# Altium footprint library LIB_PCB_Main.PcbLib: 32 footprints (part 1 of 2)
Each footprint in its own frame and in the unit in brackets; x right, y up, seen from the top. Pads: shape width x height; smd on the part's side, far side on the other; paste and mask are expansions set on the pad; w line width, h text height; cw(c..) or ccw(c..) is an arc to the next point about the centre after c.
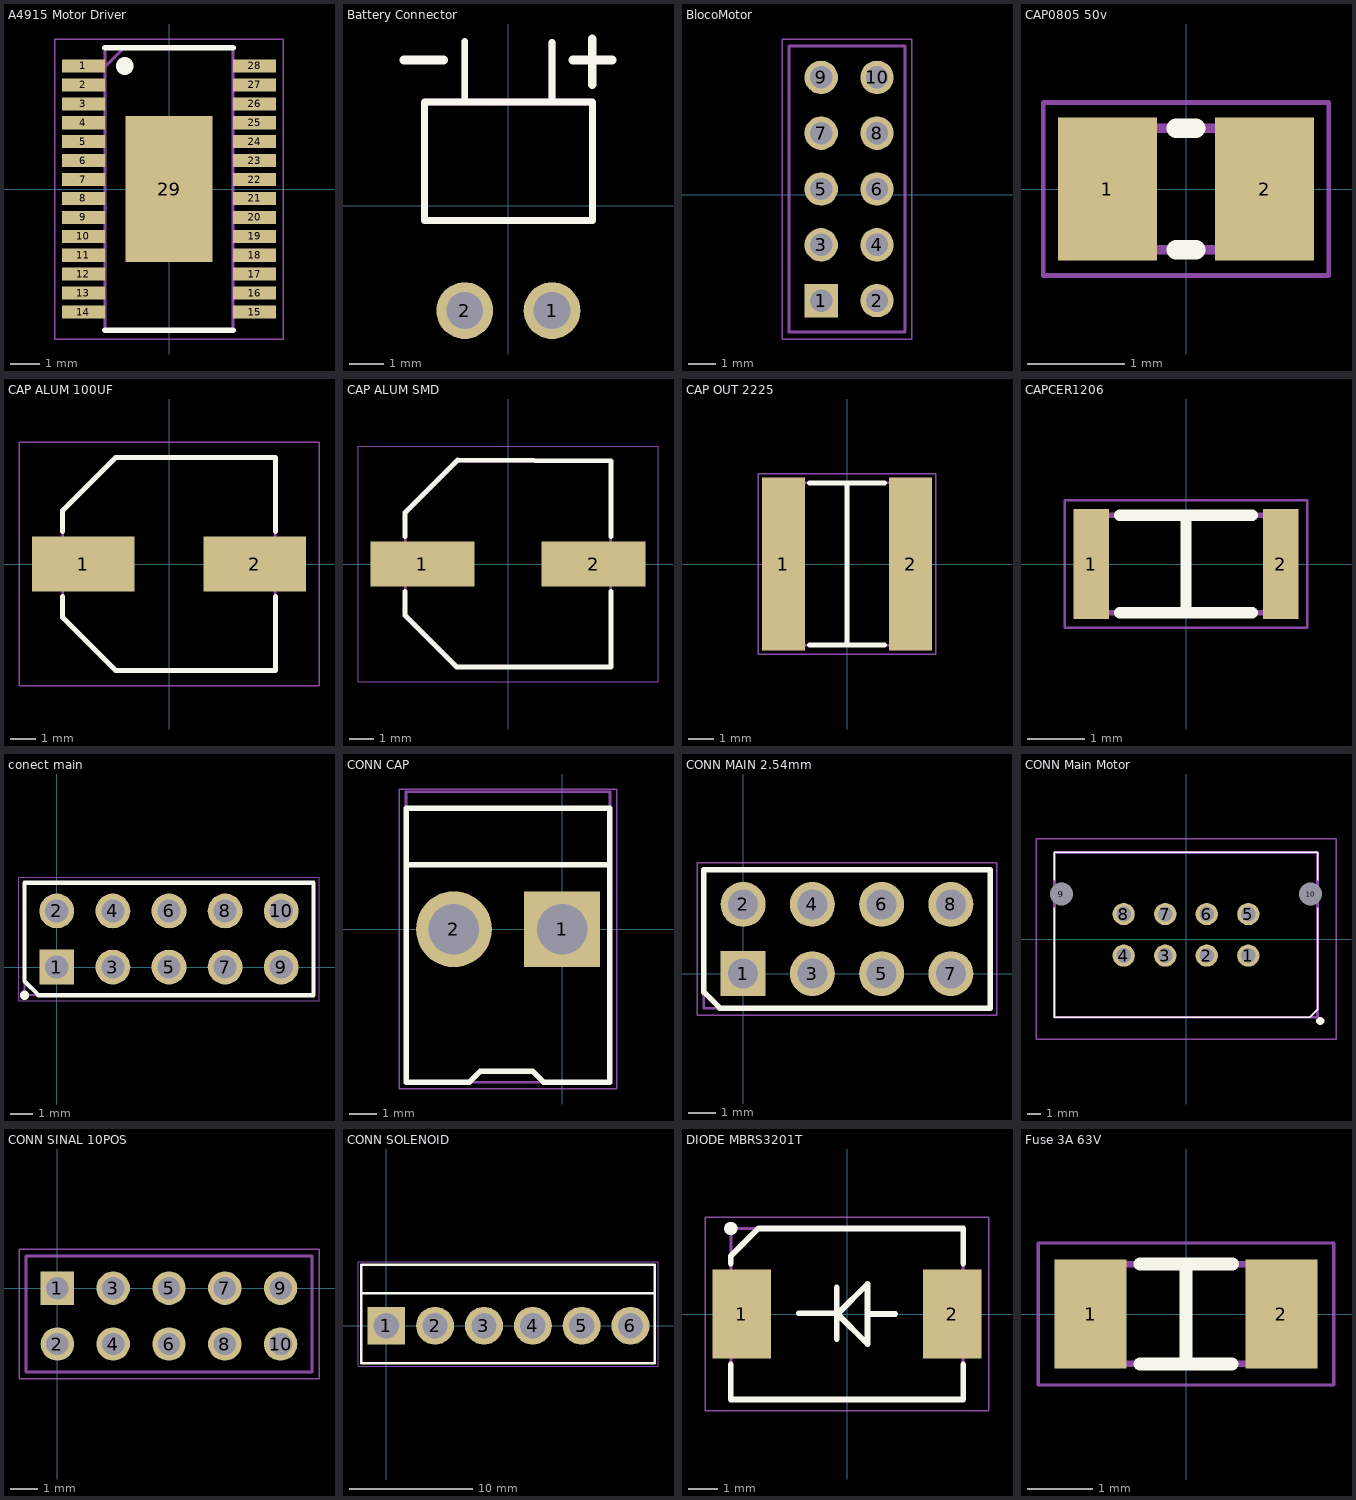
[diagram p0: the footprints below, top view; thin cyan lines are the x and y axes]

## A4915 Motor Driver [mm] "28-Pin TSSOP  with Exposed Thermal Pad"
pads (29):
  rect 1.475x0.45 smd: 1(-2.938,4.225) 2(-2.938,3.575) 3(-2.938,2.925) 4(-2.938,2.275) 5(-2.938,1.625) 6(-2.938,0.975) 7(-2.938,0.325) 8(-2.938,-0.325) 9(-2.938,-0.975) 10(-2.938,-1.625) 11(-2.938,-2.275) 12(-2.938,-2.925) 13(-2.938,-3.575) 14(-2.938,-4.225) 15(2.938,-4.225) 16(2.938,-3.575) 17(2.938,-2.925) 18(2.938,-2.275) 19(2.938,-1.625) 20(2.938,-0.975) 21(2.938,-0.325) 22(2.938,0.325) 23(2.938,0.975) 24(2.938,1.625) 25(2.938,2.275) 26(2.938,2.925) 27(2.938,3.575) 28(2.938,4.225)
  rect 3x5 smd: 29(0,0)
Top Overlay:
  lines w0.2: -2.2,-4.85 2.2,-4.85 ; -2.2,4.85 2.2,4.85
  lines w0.6: -1.524,4.216 -1.524,4.225
Mechanical 13:
  lines w0.1: -2.2,4.2 -1.55,4.85 ; -2.2,-4.85 2.2,-4.85 2.2,4.85 -2.2,4.85 -2.2,-4.85
Mechanical 15:
  lines w0.05: -3.925,-5.15 3.925,-5.15 3.925,5.15 -3.925,5.15 -3.925,-5.15
3D body "A3941KLPTR.stp": height 1.2, standoff 0, extent -3.2,-4.85 3.2,4.85

## Battery Connector [mm] "22-05-3021"
pads (2):
  round 1.65 hole 1.07: 1(1.27,-3.05) 2(-1.27,-3.05)
Top Overlay:
  lines w0.2: -1.27,3.065 -1.27,4.775 ; 1.27,3.048 1.27,4.758 ; -2.445,-0.432 -2.445,3.023 2.445,3.023 2.445,-0.432 -2.445,-0.432
  lines w0.254: -3.048,4.242 -1.88,4.242 ; 1.88,4.242 3.023,4.242 ; 2.438,3.531 2.438,4.851
Mechanical 13:
  lines w0.2: -1.27,3.065 -1.27,4.775 ; 1.27,3.048 1.27,4.758 ; -2.445,-0.432 2.445,-0.432 2.445,3.023 -2.445,3.023 -2.445,-0.432
3D body "22-05-3021.stp": height 6.4, standoff -3.53, extent -2.464,-3.429 2.464,9.5

## BlocoMotor [mm]
pads (10):
  rect 1.2x1.2 hole 0.8: 1(-20.575,-3.8)
  round 1.2 hole 0.8: 2(-18.575,-3.8) 3(-20.575,-1.8) 4(-18.575,-1.8) 5(-20.575,0.2) 6(-18.575,0.2) 7(-20.575,2.2) 8(-18.575,2.2) 9(-20.575,4.2) 10(-18.575,4.2)
Mechanical 13:
  lines w0.1: -21.725,-4.925 -21.725,3.325 -21.725,5.325 -17.575,5.325 -17.575,3.325 -17.575,-4.925 -21.725,-4.925
Mechanical 15:
  lines w0.05: -21.975,-5.175 -21.975,3.575 -21.975,5.575 -17.325,5.575 -17.325,3.575 -17.325,-5.175 -21.975,-5.175
3D body "BlocoMotor.step": height 11.75, standoff 8.94, extent -25.3,-15.175 34.2,12.825

## CAP0805 50v [mm] "CAPC2012X94N"
pads (2):
  rect 1.02x1.47 smd: 1(-0.81,0) 2(0.81,0)
Top Overlay:
  lines w0.2: -0.102,0.625 0.102,0.625 0,0.625 ; -0.1,-0.625 0,-0.625 ; 0,-0.625 0.102,-0.625 0,-0.625
Mechanical 13:
  lines w0.1: -1.005,-0.625 1.005,-0.625 1.005,0.625 -1.005,0.625 -1.005,-0.625
Mechanical 15:
  lines w0.05: -1.47,-0.89 1.47,-0.89 1.47,0.89 -1.47,0.89 -1.47,-0.89
3D body "08055A101JAT2A.stp": height 0.94, standoff 0, extent -1.005,-0.625 1.005,0.625

## CAP ALUM 100UF [mm] "CAP ALUM 100UF 20% 50V SMD"
pads (2):
  rect 4x2.15 smd: 1(-3.35,0) 2(3.35,0)
Top Overlay:
  lines w0.2: -4.15,-1.27 -4.15,-2.075 -2.075,-4.15 4.15,-4.15 4.15,-1.27 ; -4.15,1.27 -4.15,2.075 -2.075,4.15 4.15,4.15 4.15,1.27
Mechanical 13:
  lines w0.1: -4.15,-2.075 -2.075,-4.15 4.15,-4.15 4.15,4.15 -2.075,4.15 -4.15,2.075 -4.15,-2.075
Mechanical 15:
  lines w0.05: -5.85,-4.75 -5.85,4.75 5.85,4.75 5.85,-4.75 -5.85,-4.75
3D body "UCD1H101MNL1GS.stp": height 10.5, standoff 0, extent -4.65,-4.25 4.65,4.25

## CAP ALUM SMD [mm] "CAPAE830X650N"
pads (2):
  rect 4.2x1.8 smd: 1(-3.45,0) 2(3.45,0)
Top Overlay:
  lines w0.2: -4.15,-1.118 -4.15,-2.075 -2.075,-4.15 4.15,-4.15 4.15,-1.118 ; -4.15,1.118 -4.15,2.075 -2.034,4.191 -2.032,4.191 4.15,4.15 4.15,1.118
Mechanical 13:
  lines w0.1: -4.15,-2.075 -4.15,2.075 -2.075,4.15 4.15,4.15 4.15,-4.15 -2.075,-4.15 -4.15,-2.075
Mechanical 15:
  lines w0.05: -6.05,-4.75 6.05,-4.75 6.05,4.75 -6.05,4.75 -6.05,-4.75
3D body "EEE-FK1E101P.stp": height 6.5, standoff 0, extent -4.75,-4.25 4.75,4.25

## CAP OUT 2225 [mm] "CAP CER 200V 2225"
pads (2):
  rect 1.66x6.71 smd: 1(-2.47,0) 2(2.47,0)
Top Overlay:
  lines w0.2: -1.448,-3.15 -0.496,-3.15 0.496,-3.15 1.448,-3.15 ; -1.448,3.15 1.448,3.15 ; 0,-3.05 0,3.05
Mechanical 13:
  lines w0.1: -2.85,-3.15 -2.85,3.15 2.85,3.15 2.85,-3.15 -2.85,-3.15
Mechanical 15:
  lines w0.05: -3.45,-3.51 -3.45,3.51 3.45,3.51 3.45,-3.51 -3.45,-3.51
3D body "2225HC103KAZ1A.stp": height 3.4, standoff 0, extent -2.85,-3.15 2.85,3.15

## CAPCER1206 [mm] "CAPC3317X75N"
pads (2):
  rect 0.62x1.92 smd: 1(-1.65,0) 2(1.65,0)
Top Overlay:
  lines w0.2: -1.15,-0.85 0.025,-0.85 ; -1.15,0.85 0,0.85 1.15,0.85 ; 0,0.75 0,-0.85 1.15,-0.85
Mechanical 13:
  lines w0.1: -1.65,-0.85 -1.65,0.85 1.65,0.85 1.65,-0.85 -1.65,-0.85
Mechanical 15:
  lines w0.05: -2.11,-1.11 -2.11,1.11 2.11,1.11 2.11,-1.11 -2.11,-1.11
3D body "C3216C0G1H103J060AA.stp": height 0.75, standoff 0, extent -1.65,-0.85 1.65,0.85

## conect main [mm]
pads (10):
  rect 1.575x1.575 hole 1.05: 1(0,0)
  round 1.575 hole 1.05: 2(0,2.54) 3(2.54,0) 4(2.54,2.54) 5(5.08,0) 6(5.08,2.54) 7(7.62,0) 8(7.62,2.54) 9(10.16,0) 10(10.16,2.54)
Top Overlay:
  lines w0.2: -1.46,-0.64 -0.83,-1.27 11.62,-1.27 11.62,3.81 0,3.81 -1.46,3.81 -1.46,3.725 -1.46,0 -1.46,-0.64
  lines w0.4: -1.46,-1.29 -1.46,-1.27
Mechanical 13:
  lines w0.1: -1.46,-1.27 -1.46,3.81 11.62,3.81 11.62,-1.27 -1.46,-1.27
Mechanical 15:
  lines w0.05: -1.71,-1.52 -1.71,4.06 11.87,4.06 11.87,-1.52 -1.71,-1.52
3D body "0010897100.stp": height 8.64, standoff -2.72, extent -1.27,-1.27 11.43,3.81

## CONN CAP [mm] "CONN HEADER VERT 2POS 3.96MM"
pads (2):
  rect 2.775x2.775 hole 1.85: 1(0,0)
  round 2.775 hole 1.85: 2(-3.96,0)
Top Overlay:
  lines w0.2: -5.639,2.362 1.676,2.362 ; -5.71,-5.6 -5.71,4.42 1.75,4.42 1.75,-5.6 -0.051,-5.6 -0.674,-5.6 -1.067,-5.207 -2.997,-5.207 -3.39,-5.6 -5.71,-5.6
Mechanical 13:
  lines w0.1: -5.71,-5.6 1.75,-5.6 1.75,5.035 -0.73,5.035 -1.355,5.035 -2.605,5.035 -3.23,5.035 -5.71,5.035 -5.71,-5.6
Mechanical 15:
  lines w0.05: -5.96,-5.85 2,-5.85 2,5.131 -5.96,5.131 -5.96,-5.85
3D body "09-65-2028.stp": height 13.85, standoff -3.6, extent -5.637,-5.715 1.523,5.035

## CONN MAIN 2.54mm [mm] "CONN HEADER VERT 8POS 2.54MM"
pads (8):
  rect 1.65x1.65 hole 1.1: 1(0,0)
  round 1.65 hole 1.1: 2(0,2.54) 3(2.54,0) 4(2.54,2.54) 5(5.08,0) 6(5.08,2.54) 7(7.62,0) 8(7.62,2.54)
Top Overlay:
  lines w0.2: -1.445,-0.68 -1.445,0 -1.445,3.81 0,3.81 9.065,3.81 9.065,-1.27 -0.855,-1.27 -1.445,-0.68
Mechanical 13:
  lines w0.1: -1.445,-1.27 -1.445,3.81 9.065,3.81 9.065,-1.27 -1.445,-1.27
Mechanical 15:
  lines w0.05: -1.695,-1.52 -1.695,4.06 9.315,4.06 9.315,-1.52 -1.695,-1.52
3D body "M20-9980445.stp": height 8.68, standoff -3, extent -1.27,-1.27 8.89,3.81

## CONN Main Motor [mm] "CONN HEADER VERT 8POS 3MM"
pads (10):
  round 1.605 hole 1.07: 1(4.5,-1.2) 2(1.5,-1.2) 3(-1.5,-1.2) 4(-4.5,-1.2) 5(4.5,1.8) 6(1.5,1.8) 7(-1.5,1.8) 8(-4.5,1.8)
  round 0.835 hole 1.67 unplated: 9(-9,3.25) 10(9,3.25)
Top Overlay:
  lines w0.1: -9.5,2.25 -9.5,-5.65 8.925,-5.65 9.5,-5.075 9.5,1.8 9.5,2.25 ; -9.5,4.25 -9.5,5.25 -9.5,6.25 9.5,6.25 9.5,5.25 9.5,4.25
  lines w0.6: 9.7,-5.925 9.7,-5.925
Mechanical 13:
  lines w0.2: -9.5,-5.65 9.5,-5.65 9.5,6.25 -9.5,6.25 -9.5,-5.65
Mechanical 15:
  lines w0.1: -10.835,-7.25 10.835,-7.25 10.835,7.25 -10.835,7.25 -10.835,-7.25

## CONN SINAL 10POS [mm] "CONN Sinal MOTOR CONN SELF-MATE 10POS VERT GOLD"
pads (10):
  rect 1.2x1.2 hole 0.8: 1(0,0)
  round 1.2 hole 0.8: 2(0,-2) 3(2,0) 4(2,-2) 5(4,0) 6(4,-2) 7(6,0) 8(6,-2) 9(8,0) 10(8,-2)
Mechanical 13:
  lines w0.1: -1.125,-3 -1.125,1.15 7.125,1.15 9.125,1.15 9.125,-3 7.125,-3 -1.125,-3
Mechanical 15:
  lines w0.05: -1.375,-3.25 -1.375,1.4 7.375,1.4 9.375,1.4 9.375,-3.25 7.375,-3.25 -1.375,-3.25

## CONN SOLENOID [mm] "SHDR6W183P0X396_1X6_2377X762X1105P"
pads (6):
  rect 3.075x3.075 hole 2.05: 1(0,0)
  round 3.075 hole 2.05: 2(3.96,0) 3(7.92,0) 4(11.88,0) 5(15.84,0) 6(19.8,0)
Top Overlay:
  lines w0.2: -2,2.65 21.761,2.65 ; -2.04,-3.05 0,-3.05 21.78,-3.05 21.78,4.951 -2.04,4.951 -2.04,0 -2.04,-3.05
Mechanical 13:
  lines w0.1: -2.04,-3.05 21.78,-3.05 21.78,4.951 -2.04,4.951 -2.04,-3.05
Mechanical 15:
  lines w0.05: -2.29,-3.3 22.03,-3.3 22.03,5.201 -2.29,5.201 -2.29,-3.3
3D body "Conn Solenoid.STEP": height 13.9, standoff -3.6, extent -1.999,-4.597 21.761,5.004

## DIODE MBRS3201T [mm] "Diode"
pads (2):
  rect 2x3.05 smd: 1(-3.6,0) 2(3.6,0)
Top Overlay:
  circle w0.254: c-3.97,2.922 r0.1
  lines w0.2: -3.97,-1.725 -3.97,-2.922 3.97,-2.922 3.97,-1.725 ; -3.97,1.725 -3.97,1.98 -3.028,2.922 3.97,2.922 3.97,1.725 ; -1.65,0.025 -0.6,0.025 ; -0.35,-0.85 -0.35,0.9 ; 0.7,0 1.65,0 ; -0.6,0.025 -0.35,0.025 0.7,-1.025 0.7,1.025 -0.3,0.025 -0.6,0.025
Mechanical 13:
  lines w0.1: -3.97,1.922 -2.97,2.922 ; -3.97,-2.922 3.97,-2.922 3.97,2.922 -3.97,2.922 -3.97,-2.922
Mechanical 15:
  lines w0.05: -4.85,-3.3 4.85,-3.3 4.85,3.3 -4.85,3.3 -4.85,-3.3
3D body "MBRS3201T3G.stp": height 2.56, standoff 0, extent -3.97,-2.923 3.97,2.923

## Fuse 3A 63V [mm] "FUSC3215X66N"
pads (2):
  rect 1.1x1.67 smd: 1(-1.46,0) 2(1.46,0)
Top Overlay:
  lines w0.2: -0.7,-0.762 0.7,-0.762 0,-0.762 0,-0.662 0,0.662 ; -0.7,0.762 0.712,0.762 0,0.762
Mechanical 13:
  lines w0.1: -1.588,-0.762 -1.588,0.762 1.588,0.762 1.588,-0.762 -1.588,-0.762
Mechanical 15:
  lines w0.05: -2.26,-1.085 -2.26,1.085 2.26,1.085 2.26,-1.085 -2.26,-1.085
3D body "0466001.NRHF.stp": height 0.66, standoff 0, extent -1.587,-0.762 1.587,0.762